# Altium footprint library Conector.PcbLib: 1 footprints
Each footprint in its own frame and in the unit in brackets; x right, y up, seen from the top. Pads: shape width x height; smd on the part's side, far side on the other; paste and mask are expansions set on the pad; w line width, h text height; cw(c..) or ccw(c..) is an arc to the next point about the centre after c.
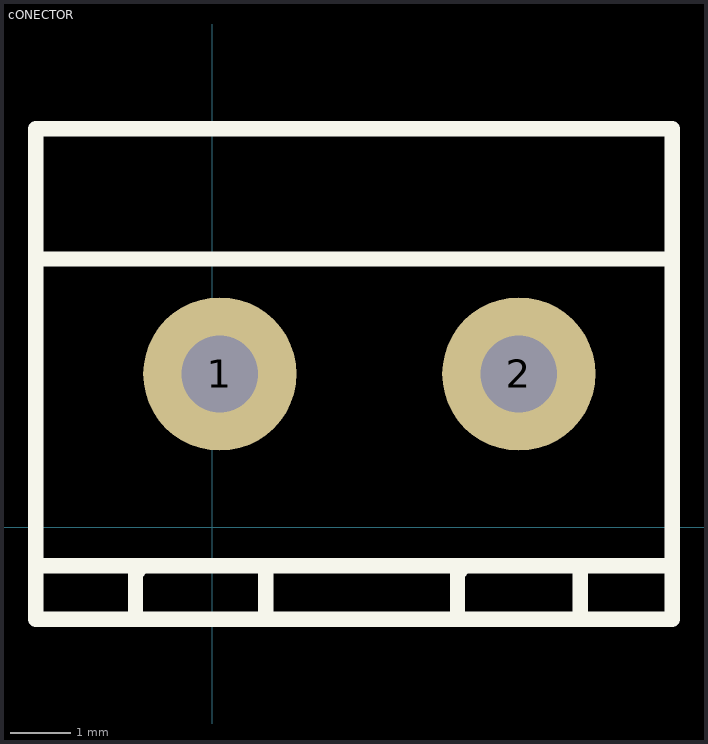
[diagram p0: the footprint, top view; thin cyan lines are the x and y axes]

## cONECTOR [mil]
pads (2):
  round 100 hole 50: 1(5,100) 2(200,100)
Top Overlay:
  lines w10: -115,-25 300,-25 ; -115,175 300,175 ; -50,-60 -50,-30 -45,-25 35,-25 35,-55 ; 160,-60 160,-30 165,-25 240,-25 240,-60 ; -115,-60 -115,260 300,260 300,-60 -115,-60
3D body: height 393.7, standoff -137.8, extent -118.07,-60.86 298.07,260